# Altium footprint library OltestLib.PcbLib: 98 footprints (part 4 of 7)
Each footprint in its own frame and in the unit in brackets; x right, y up, seen from the top. Pads: shape width x height; smd on the part's side, far side on the other; paste and mask are expansions set on the pad; w line width, h text height; cw(c..) or ccw(c..) is an arc to the next point about the centre after c.
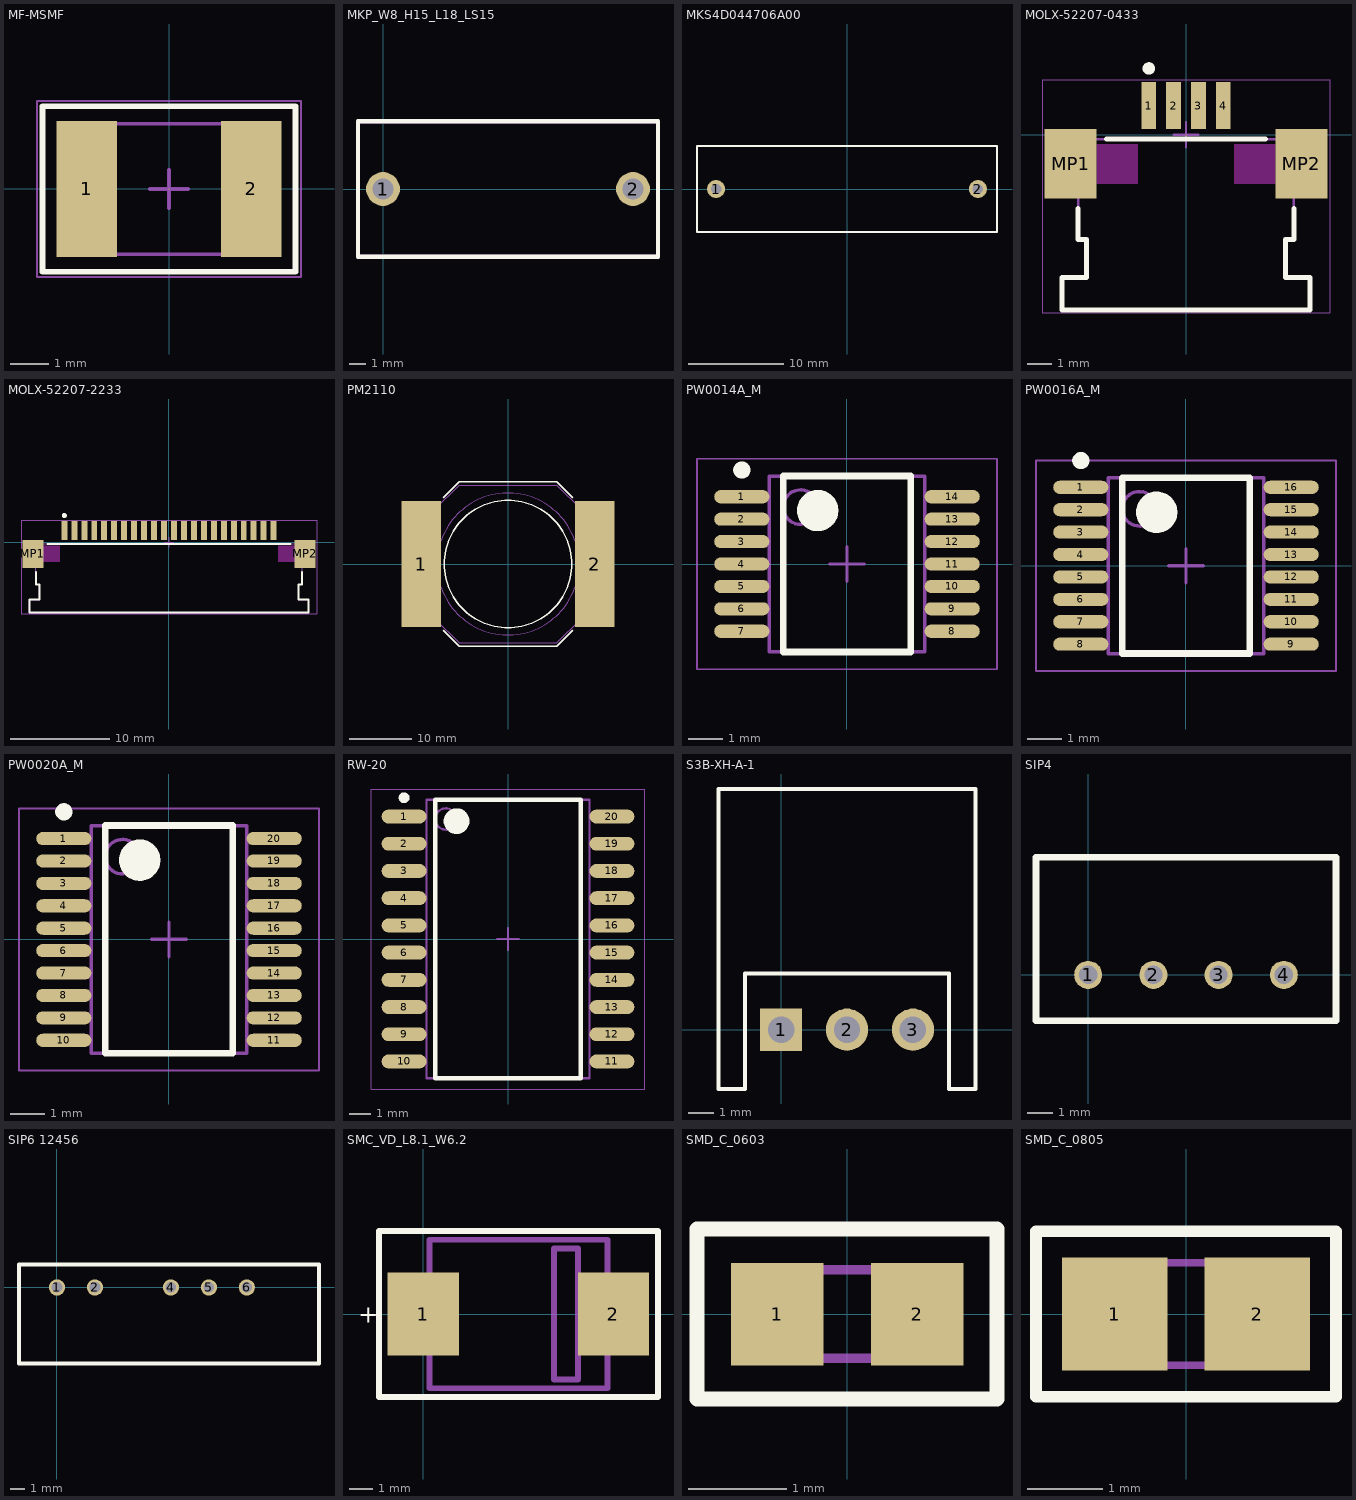
[diagram p3: the footprints below, top view; thin cyan lines are the x and y axes]

## MF-MSMF [mm] "2-Leads, Body 4,55x3,24mm, IPC Low Density"
height 1
pads (2):
  rect 1.57x3.54 smd: 1(-2.145,0) 2(2.145,0)
Top Overlay:
  lines w0.152: -3.302,-2.159 3.302,-2.159 3.302,2.159 -3.302,2.159 -3.302,-2.159
Mechanical 13:
  lines w0.1: -2.365,-1.705 2.365,-1.705 2.365,1.705 -2.365,1.705 -2.365,-1.705
Mechanical 15:
  lines w0.05: -3.45,-2.3 3.45,-2.3 3.45,2.3 -3.45,2.3 -3.45,-2.3
  lines w0.1: -0.5,0 0.5,0 ; 0,-0.5 0,0.5
3D body "INDC4632X10M.step": height 1, standoff 0, extent -2.365,-1.705 2.365,1.705

## MKP_W8_H15_L18_LS15 [mil]
pads (2):
  round 80 hole 50: 1(0,0) 2(590,0)
Top Overlay:
  lines w10: -59,-160 -59,0 -59,160 649,160 649,-160 -59,-160
Mechanical 13:
  lines w10: -59,-160 -59,0 -59,160 649,160 649,-160 -59,-160
3D body: height 590, standoff 0, extent -64,-165 654,165

## MKS4D044706A00 [mm]
height 19
pads (2):
  round 1.9 hole 1.1: 1(-13.75,0) 2(13.75,0)
Top Overlay:
  lines w0.203: -15.75,-4.5 -15.75,4.5 15.75,4.5 15.75,-4.5 -15.75,-4.5
Mechanical 13:
  lines w0.152: -15.75,-4.5 -15.75,4.5 15.75,4.5 15.75,-4.5 -15.75,-4.5
3D body: height 19, standoff 0, extent -15.749,-4.499 15.749,4.499

## MOLX-52207-0433 [mm] "FPC Connector, 4-Leads, Right Angle, Pitch 1.0 mm, Mated Height 2.7 mm, SMT"
height 2.712
pads (6):
  rect 0.6x1.9 smd: 1(-1.5,1.175) 2(-0.5,1.175) 3(0.5,1.175) 4(1.5,1.175)
  rect 2.1x2.8 smd: MP1(-4.65,-1.175) MP2(4.65,-1.175)
Top Overlay:
  circle w0.25: c-1.5,2.675 r0.125
  lines w0.2: -4.35,-2.975 -4.35,-4.225 ; -3.2,-0.175 3.2,-0.175 ; 4.35,-2.975 4.35,-4.225 ; -4.35,-4.225 -4.35,-4.225 ; -4.35,-4.225 -4.013,-4.225 -4.012,-4.225 -4.012,-5.765 -5,-5.765 -5,-7.075 5,-7.075 5,-5.765 4.012,-5.765 4.012,-4.225 4.013,-4.225 4.35,-4.225 ; 4.35,-4.225 4.35,-4.225
Keep-Out Layer:
  region: 3.6,-0.375 1.95,-0.375 1.95,-1.975 3.6,-1.975
  region: -3.6,-0.375 -1.95,-0.375 -1.95,-1.975 -3.6,-1.975
Mechanical 13:
  lines w0.1: -5.15,-2.175 -4.35,-2.175 -4.35,-4.225 -4.012,-4.225 -4.012,-5.765 -5,-5.765 -5,-7.075 5,-7.075 5,-5.765 4.012,-5.765 4.012,-4.225 4.35,-4.225 4.35,-2.175 5.15,-2.175 5.15,-0.175 -5.15,-0.175 -5.15,-2.175
Mechanical 15:
  lines w0.05: -5.8,-7.175 5.8,-7.175 5.8,2.225 -5.8,2.225 -5.8,-7.175
  lines w0.1: -0.5,0 0.5,0 ; 0,-0.5 0,0.5
3D body "522070433.stp": height 2.71, standoff 0.01, extent -5.15,-7.075 5.15,1.825

## MOLX-52207-2233 [mm] "FPC Connector, 22-Leads, Right Angle, Pitch 1.0 mm, Mated Height 2.7 mm, SMT"
height 2.712
pads (24):
  rect 0.6x1.9 smd: 1(-10.5,1.175) 2(-9.5,1.175) 3(-8.5,1.175) 4(-7.5,1.175) 5(-6.5,1.175) 6(-5.5,1.175) 7(-4.5,1.175) 8(-3.5,1.175) 9(-2.5,1.175) 10(-1.5,1.175) 11(-0.5,1.175) 12(0.5,1.175) 13(1.5,1.175) 14(2.5,1.175) 15(3.5,1.175) 16(4.5,1.175) 17(5.5,1.175) 18(6.5,1.175) 19(7.5,1.175) 20(8.5,1.175) 21(9.5,1.175) 22(10.5,1.175)
  rect 2.1x2.8 smd: MP1(-13.65,-1.175) MP2(13.65,-1.175)
Top Overlay:
  circle w0.25: c-10.5,2.675 r0.125
  lines w0.2: -13.35,-2.975 -13.35,-4.225 -13.013,-4.225 -13.012,-5.765 -14,-5.765 -14,-7.075 14,-7.075 14,-5.765 13.012,-5.765 13.012,-4.225 13.35,-4.225 13.35,-2.975 ; -12.2,-0.175 12.2,-0.175
Keep-Out Layer:
  region: 12.6,-0.375 10.95,-0.375 10.95,-1.975 12.6,-1.975
  region: -12.6,-0.375 -10.95,-0.375 -10.95,-1.975 -12.6,-1.975
Mechanical 13:
  lines w0.1: -14.15,-2.175 -13.35,-2.175 -13.35,-4.225 -13.012,-4.225 -13.012,-5.765 -14,-5.765 -14,-7.075 14,-7.075 14,-5.765 13.012,-5.765 13.012,-4.225 13.35,-4.225 13.35,-2.175 14.15,-2.175 14.15,-0.175 -14.15,-0.175 -14.15,-2.175
Mechanical 15:
  lines w0.05: -14.8,-7.175 14.8,-7.175 14.8,2.225 -14.8,2.225 -14.8,-7.175
  lines w0.1: -0.5,0 0.5,0 ; 0,-0.5 0,0.5
3D body "522072233.stp": height 2.71, standoff 0.01, extent -14.15,-7.075 14.15,1.825

## PM2110 [mm] "PM2110"
height 14.478
pads (2):
  rect 6.35x20.32 smd: 1(-13.97,0) 2(13.97,0)
Top Overlay:
  circle w0.203: c0,0 r10.252
  lines w0.203: -10.414,-10.668 -7.874,-13.208 7.874,-13.208 10.414,-10.668 ; -10.414,10.668 -7.874,13.208 7.874,13.208 10.414,10.668
Mechanical 13:
  circle w0.152: c0,0 r11.416
  lines w0.152: -15.24,-8.89 -15.24,8.89 -11.684,8.89 -7.874,12.7 7.874,12.7 11.684,8.89 15.24,8.89 15.24,-8.89 11.684,-8.89 7.874,-12.7 -7.874,-12.7 -11.684,-8.89 -15.24,-8.89
3D body: height 14.48, standoff 2.54, extent -11.415,-11.415 11.415,11.415
3D body: height 2.54, standoff 0, extent -15.241,-12.701 15.241,12.701

## PW0014A_M [mil] "SOP, 14-Leads, Body 5.1x4.5mm, Pitch 0.65mm, IPC Low Density"
height 47.24
pads (14):
  oval 63x15 smd: 1(-120.08,76.77) 2(-120.08,51.18) 3(-120.08,25.59) 4(-120.08,0) 5(-120.08,-25.59) 6(-120.08,-51.18) 7(-120.08,-76.77) 8(120.08,-76.77) 9(120.08,-51.18) 10(120.08,-25.59) 11(120.08,0) 12(120.08,25.59) 13(120.08,51.18) 14(120.08,76.77)
Top Overlay:
  circle w9.84: c-120.08,107.28 r4.92
  circle w23.62: c-33.46,61.02 r11.81
  lines w7.87: -72.83,-100.39 -72.83,100.39 72.83,100.39 72.83,-100.39 -72.83,-100.39
Mechanical 13:
  circle w3.94: c-53.15,64.96 r19.68
  lines w3.94: -88.58,-100.39 -88.58,100.39 88.58,100.39 88.58,-100.39 -88.58,-100.39
Mechanical 15:
  lines w1.97: -171.26,-120.08 -171.26,120.08 171.26,120.08 171.26,-120.08 -171.26,-120.08
  lines w3.94: -19.68,0 19.69,0 ; 0,-19.68 0,19.69
3D body "PW0014AakaMTC14.stp": height 47.24, standoff 0.02, extent -126.38,-98.42 126.39,98.43

## PW0016A_M [mm] "SOP, 16-Leads, Body 5.1x4.5mm, Pitch 0.65mm, IPC Low Density"
height 1.2
pads (16):
  oval 1.6x0.381 smd: 1(-3.05,2.275) 2(-3.05,1.625) 3(-3.05,0.975) 4(-3.05,0.325) 5(-3.05,-0.325) 6(-3.05,-0.975) 7(-3.05,-1.625) 8(-3.05,-2.275) 9(3.05,-2.275) 10(3.05,-1.625) 11(3.05,-0.975) 12(3.05,-0.325) 13(3.05,0.325) 14(3.05,0.975) 15(3.05,1.625) 16(3.05,2.275)
Top Overlay:
  circle w0.6: c-0.85,1.55 r0.3
  circle w0.25: c-3.05,3.05 r0.125
  lines w0.2: -1.85,-2.55 1.85,-2.55 1.85,2.55 -1.85,2.55 -1.85,-2.55
Mechanical 13:
  circle w0.1: c-1.35,1.65 r0.5
  lines w0.1: -2.25,-2.55 2.25,-2.55 2.25,2.55 -2.25,2.55 -2.25,-2.55
Mechanical 15:
  lines w0.05: -4.35,-3.05 4.35,-3.05 4.35,3.05 -4.35,3.05 -4.35,-3.05
  lines w0.1: -0.5,0 0.5,0 ; 0,-0.5 0,0.5
3D body "PW0016AakaMTC16.stp": height 1.2, standoff 0, extent -3.21,-2.5 3.21,2.5

## PW0020A_M [mm] "SOP, 20-Leads, Body 6.6x4.5mm, Pitch 0.65mm, IPC Low Density"
height 1.2
pads (20):
  oval 1.6x0.381 smd: 1(-3.05,2.925) 2(-3.05,2.275) 3(-3.05,1.625) 4(-3.05,0.975) 5(-3.05,0.325) 6(-3.05,-0.325) 7(-3.05,-0.975) 8(-3.05,-1.625) 9(-3.05,-2.275) 10(-3.05,-2.925) 11(3.05,-2.925) 12(3.05,-2.275) 13(3.05,-1.625) 14(3.05,-0.975) 15(3.05,-0.325) 16(3.05,0.325) 17(3.05,0.975) 18(3.05,1.625) 19(3.05,2.275) 20(3.05,2.925)
Top Overlay:
  circle w0.25: c-3.05,3.7 r0.125
  circle w0.6: c-0.85,2.3 r0.3
  lines w0.2: -1.85,-3.3 -1.85,3.3 1.85,3.3 1.85,-3.3 -1.85,-3.3
Mechanical 13:
  circle w0.1: c-1.35,2.4 r0.5
  lines w0.1: -2.25,-3.3 -2.25,3.3 2.25,3.3 2.25,-3.3 -2.25,-3.3
Mechanical 15:
  lines w0.05: -4.35,-3.8 -4.35,3.8 4.35,3.8 4.35,-3.8 -4.35,-3.8
  lines w0.1: -0.5,0 0.5,0 ; 0,-0.5 0,0.5
3D body "PW0020AakaMTC20.stp": height 1.2, standoff 0, extent -3.21,-3.25 3.21,3.25

## RW-20 [mm] "SOIC, 20-Leads, Body 12,80x7,50mm, Pitch 1,27mm, IPC Low Density"
height 2.65
pads (20):
  oval 2.1x0.65 smd: 1(-4.85,5.715) 2(-4.85,4.445) 3(-4.85,3.175) 4(-4.85,1.905) 5(-4.85,0.635) 6(-4.85,-0.635) 7(-4.85,-1.905) 8(-4.85,-3.175) 9(-4.85,-4.445) 10(-4.85,-5.715) 11(4.85,-5.715) 12(4.85,-4.445) 13(4.85,-3.175) 14(4.85,-1.905) 15(4.85,-0.635) 16(4.85,0.635) 17(4.85,1.905) 18(4.85,3.175) 19(4.85,4.445) 20(4.85,5.715)
Top Overlay:
  circle w0.6: c-2.4,5.5 r0.3
  circle w0.25: c-4.85,6.59 r0.125
  lines w0.2: -3.4,-6.5 3.4,-6.5 3.4,6.5 -3.4,6.5 -3.4,-6.5
Mechanical 13:
  circle w0.1: c-2.9,5.6 r0.5
  lines w0.1: -3.8,-6.5 3.8,-6.5 3.8,6.5 -3.8,6.5 -3.8,-6.5
Mechanical 15:
  lines w0.05: -6.375,-7 6.375,-7 6.375,7 -6.375,7 -6.375,-7
  lines w0.1: -0.5,0 0.5,0 ; 0,-0.5 0,0.5
3D body "SOIC127P1030X265-20M.step": height 2.65, standoff 0, extent -5.162,-6.5 5.162,6.5

## S3B-XH-A-1 [mil]
pads (3):
  rect 64x64 / inner round 0 / far side rect 64x64 hole 40 mask+5: 1(0,0)
  round 64 / inner round 0 / far side round 64 hole 40 mask+5: 2(100,0) 3(200,0)
Top Overlay:
  lines w6: -95,-90 -55,-90 -55,85 255,85 255,-90 295,-90 295,365 -95,365 -95,-90
3D body "S3B-XH-A.STEP": height 243.13, standoff -132.86, extent -94.88,-90.38 294.88,362.38

## SIP4 [mil]
pads (4):
  round 43 / inner round 0 / far side round 43 hole 28 mask+4: 1(0,0) 2(100,0) 3(200,0) 4(300,0)
Top Overlay:
  lines w10: -80,-70 -80,180 380,180 380,-70 -40,-70 -80,-70
3D body: height 400, standoff 0, extent -79.98,-69.98 379.98,179.98

## SIP6 12456 [mil]
pads (5):
  round 43 / inner round 0 / far side round 43 hole 28 mask+4: 1(0,0) 2(100,0) 4(300,0) 5(400,0) 6(500,0)
Top Overlay:
  lines w10: -100,-200 -100,60 690,60 690,-200 630,-200 -100,-200
3D body: height 400, standoff 0, extent -99.98,-199.98 689.98,59.98

## SMC_VD_L8.1_W6.2 [mil] "Schottky Diode, 2-Leads, Body 8,13x6,52mm, IPC Low Density"
pads (2):
  rect 120x140 smd: 1(0,0) 2(320,0)
Top Overlay:
  lines w10: -75,-140 -75,0 -75,140 395,140 395,-140 -75,-140
  text "+" at -110,-15 h30
Mechanical 13:
  lines w10: 0,-60 10,-60 10,-20 10,20 10,60 0,60 0,0 0,-60 ; 10,-125 10,-83.75 10,-41.25 10,10 10,125 280,125 310,125 310,-125 280,-125 10,-125 ; 220,-110 260,-110 260,110 220,110 220,-110 ; 310,-60 310,-10 310,60 320,60 320,-60 310,-60
3D body: height 105, standoff 0, extent 10.02,-124.98 309.98,124.98
3D body: height 107, standoff 105, extent 220.02,-109.98 259.98,109.98
3D body: height 50, standoff 0, extent 310.02,-59.98 319.98,59.98
3D body: height 50, standoff 0, extent 0.02,-59.98 9.98,59.98

## SMD_C_0603 [mil] "Chip Capacitor, 2-Leads, Body 1,60x0,80mm, IPC Low Density"
height 31.5
pads (2):
  rect 37x41 smd: 1(-28,0) 2(28,0)
Top Overlay:
  lines w6: -60,-34 60,-34 60,34 -60,34 -60,-34
Mechanical 13:
  lines w3.94: -33.46,-17.72 -33.46,17.72 33.46,17.72 33.46,-17.72 -33.46,-17.72
3D body "CAPC1608X08M.step": height 31.5, standoff 0, extent -33.46,-17.72 33.46,17.72

## SMD_C_0805 [mil] "Chip Capacitor, 2-Leads, Body 2,00x1,25mm, IPC Low Density"
height 23.62
pads (2):
  rect 55x59 smd: 1(-37,0) 2(37,0)
Top Overlay:
  lines w6: -78,-43 78,-43 78,43 -78,43 -78,-43
Mechanical 13:
  lines w3.94: -41.34,-26.57 41.34,-26.57 41.34,26.57 -41.34,26.57 -41.34,-26.57
3D body "CAPC2012X06M.step": height 23.62, standoff 0, extent -41.34,-26.57 41.34,26.57